# EAGLE library part 4R-N (library resistor-dil)
Array Chip Resistor Source: RS Component / Phycomp
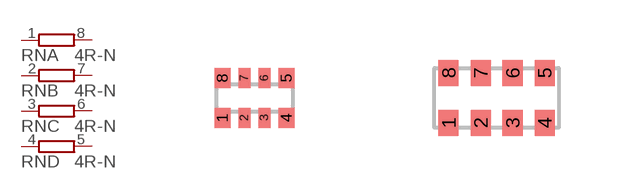
[diagram p0: symbol with the pads of 4X0402ARV341; footprints 4X0402ARV341, 0603-ARC]

Designator prefix RN; gates A=R1NV B=R1NV C=R1NV D=R1NV

## 4R-N0402ARV341 (OC_FARNELL: unknown; OC_NEWARK: unknown)  [4X0402ARV341]
1  A:1  pas
2  B:1  pas
3  C:1  pas
4  D:1  pas
5  D:2  pas
6  C:2  pas
7  B:2  pas
8  A:2  pas

## 4R-N0603-ARC (OC_FARNELL: unknown; OC_NEWARK: unknown)  [0603-ARC]
Pads as for 4X0402ARV341

## 4R-N0603-ARV (OC_FARNELL: unknown; OC_NEWARK: unknown)  [0603-ARV]
Pads as for 4X0402ARV341

## 4R-NCAT16 (OC_FARNELL: unknown; OC_NEWARK: unknown)  [CAT16]
Pads as for 4X0402ARV341

## 4R-NCAY16 (OC_FARNELL: unknown; OC_NEWARK: unknown)  [CAY16]
Pads as for 4X0402ARV341

## 4R-NEXB18V (OC_FARNELL: unknown; OC_NEWARK: unknown)  [EXB18V]
Pads as for 4X0402ARV341

## 4R-NEXB28V (OC_FARNELL: unknown; OC_NEWARK: unknown)  [EXB28V]
Pads as for 4X0402ARV341

## 4R-NEXB38V (OC_FARNELL: unknown; OC_NEWARK: unknown)  [EXB38V]
Pads as for 4X0402ARV341

## 4R-NEXBN8V (OC_FARNELL: unknown; OC_NEWARK: unknown)  [EXBN8V]
Pads as for 4X0402ARV341

## 4R-NEXBS8V (OC_FARNELL: unknown; OC_NEWARK: unknown)  [EXBS8V]
Pads as for 4X0402ARV341

## 4R-NEXBV8V (OC_FARNELL: unknown; OC_NEWARK: unknown)  [EXBV8V]
Pads as for 4X0402ARV341

## 4R-NYC124 (OC_FARNELL: unknown; OC_NEWARK: unknown)  [YC124]
Pads as for 4X0402ARV341

## Footprint 4X0402ARV341 (pad centres in mm)
Array chip resistor size 4 × 0402 Source: http://docs-europe.electrocomponents.com/webdocs/0114/0900766b80114d99.pdf
smd 0.4 x 0.5: 1 -0.8,-0.5; 4 0.8,-0.5; 5 0.8,0.5; 8 -0.8,0.5
smd 0.3 x 0.5: 2 -0.25,-0.5; 3 0.25,-0.5; 6 0.25,0.5; 7 -0.25,0.5

## Footprint 0603-ARC (pad centres in mm)
Chip Resistor Array size 4 × 0603 concave termination - Phycomp Components Source: RS Components
smd 0.5 x 0.65: 1 -1.2,-0.625; 2 -0.4,-0.625; 3 0.4,-0.625; 4 1.2,-0.625; 5 1.2,0.625; 6 0.4,0.625; 7 -0.4,0.625; 8 -1.2,0.625

## Footprint 0603-ARV (pad centres in mm)
Chip Resistor Array size 4 × 0603 convex termination - Phycomp Components Source: RS Components
smd 0.5 x 0.65: 1 -1.2,-0.625; 2 -0.4,-0.625; 3 0.4,-0.625; 4 1.2,-0.625; 5 1.2,0.625; 6 0.4,0.625; 7 -0.4,0.625; 8 -1.2,0.625

## Footprint CAT16 (pad centres in mm)
BOURNS Chip Resistor Array Source: RS Component / BUORNS
smd 0.5 x 0.65: 1 -1.2,-0.675; 2 -0.4,-0.675; 3 0.4,-0.675; 4 1.2,-0.675; 5 1.2,0.675; 6 0.4,0.675; 7 -0.4,0.675; 8 -1.2,0.675

## Footprint CAY16 (pad centres in mm)
BOURNS Chip Resistor Array Source: RS Component / BUORNS
smd 0.5 x 0.65: 1 -1.2,-0.675; 2 -0.4,-0.675; 3 0.4,-0.675; 4 1.2,-0.675; 5 1.2,0.675; 6 0.4,0.675; 7 -0.4,0.675; 8 -1.2,0.675

## Footprint EXB18V (pad centres in mm)
Chip Resistor Array 0201x4 4 resistors in 1.4 mm x 0.6 mm size Source: PANASONIC .. aoc0000ce1.pdf
smd 0.3 x 0.3: 1 -0.6,-0.3; 2 -0.2,-0.3; 3 0.2,-0.3; 4 0.6,-0.3; 5 0.6,0.3; 6 0.2,0.3; 7 -0.2,0.3; 8 -0.6,0.3

## Footprint EXB28V (pad centres in mm)
Chip Resistor Array 0402x4 4 resistors in 2.0 mm x 1.0 mm size Source: PANASONIC .. aoc0000ce1.pdf
smd 0.525 x 0.5: 1 -0.875,-0.45; 4 0.875,-0.45; 5 0.875,0.45; 8 -0.875,0.45
smd 0.25 x 0.5: 2 -0.25,-0.45; 3 0.25,-0.45; 6 0.25,0.45; 7 -0.25,0.45

## Footprint EXB38V (pad centres in mm)
Chip Resistor Array 0603x4 4 resistors in 3.2 mm x 1.6 mm size (EXB38V, V8V) Source: PANASONIC .. aoc0000ce1.pdf
smd 0.6 x 0.8: 1 -1.275,-0.75; 4 1.275,-0.75; 5 1.275,0.75; 8 -1.275,0.75
smd 0.5 x 0.8: 2 -0.4,-0.75; 3 0.4,-0.75; 6 0.4,0.75; 7 -0.4,0.75

## Footprint EXBN8V (pad centres in mm)
Chip Resistor Array 0402x4 4 resistors in 2.0 mm x 1.0 mm size Source: PANASONIC .. aoc0000ce1.pdf
smd 0.38 x 0.5: 1 -0.8,-0.475; 4 0.8,-0.475; 5 0.8,0.475; 8 -0.8,0.475
smd 0.25 x 0.5: 2 -0.25,-0.475; 3 0.25,-0.475; 6 0.25,0.475; 7 -0.25,0.475

## Footprint EXBS8V (pad centres in mm)
Chip Resistor Array 0805x4 4 resistors in 5.08 mm x 2.20 mm size Source: PANASONIC .. aoc0000ce1.pdf
smd 0.75 x 1.1: 1 -1.905,-1.07; 2 -0.635,-1.07; 3 0.635,-1.07; 4 1.905,-1.07; 5 1.905,1.07; 6 0.635,1.07; 7 -0.635,1.07; 8 -1.905,1.07

## Footprint EXBV8V (pad centres in mm)
Chip Resistor Array 0603x4 4 resistors in 3.20 mm x 1.60 mm size Source: PANASONIC .. aoc0000ce1.pdf
smd 0.45 x 0.7: 1 -1.2,-0.775; 2 -0.4,-0.775; 3 0.4,-0.775; 4 1.2,-0.775; 5 1.2,0.775; 6 0.4,0.775; 7 -0.4,0.775; 8 -1.2,0.775

## Footprint YC124 (pad centres in mm)
ARRAY CHIP RESISTOR Size 4 x 0402 Source: www.yageo.com .. Pu-YC124_51_PbFree_L_1.pdf
smd 0.4 x 0.4: 1 -0.8,-0.35; 4 0.8,-0.35; 5 0.8,0.35; 8 -0.8,0.35
smd 0.3 x 0.4: 2 -0.25,-0.35; 3 0.25,-0.35; 6 0.25,0.35; 7 -0.25,0.35